# Altium footprint library Sic_PowerBoard.PcbLib: 17 footprints (part 2 of 2)
Each footprint in its own frame and in the unit in brackets; x right, y up, seen from the top. Pads: shape width x height; smd on the part's side, far side on the other; paste and mask are expansions set on the pad; w line width, h text height; cw(c..) or ccw(c..) is an arc to the next point about the centre after c.
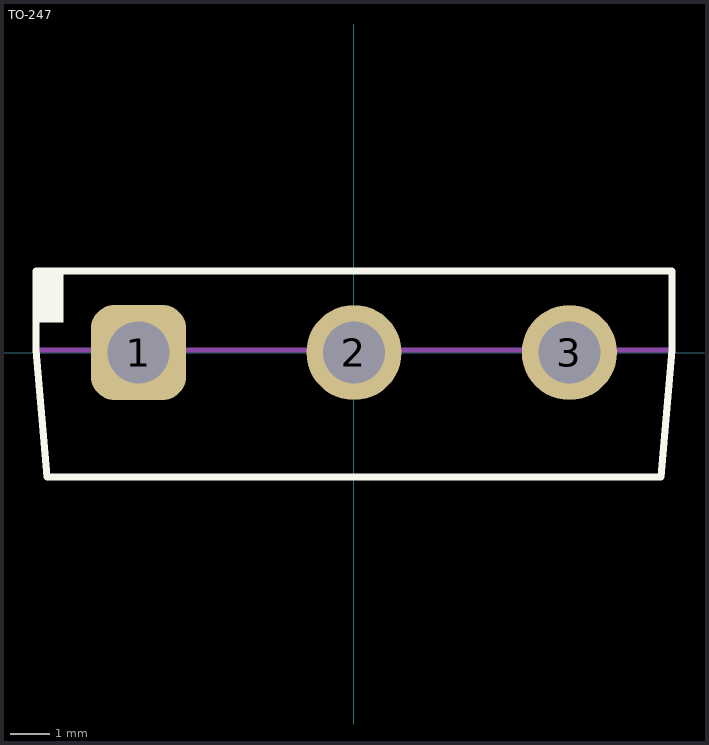
[diagram p1: the footprint, top view; thin cyan lines are the x and y axes]

## TO-247 [mil] "Standard TO-247"
height 1000
pads (3):
  rrect50% 95x95 / inner round 78 / far side rrect50% 95x95 hole 62: 1(-215,0)
  round 95 / inner round 78 / far side round 95 hole 62: 2(0,0) 3(215,0)
Top Overlay:
  rectangle: -317.51,30 -290,81.11
  lines w7: -317.51,2.37 -306.45,-124.01 306.47,-124.01 317.53,2.37 317.53,81.11 -317.51,81.11 -317.51,2.37
Mechanical 5:
  lines w5: -317.51,2.37 -317.51,81.11 317.53,81.11 317.53,2.37 ; -317.51,2.37 -306.45,-124.01 306.47,-124.01 317.53,2.37 ; -317.51,2.37 317.53,2.37
  text ".Designator" at -78.74,-78.74 h30
3D body "User Library-PG-TO247-3-21.STEP": height 995.38, standoff -623.91, extent -316.93,-122.05 309.06,78.74